# Altium schematic symbol library SWD.SchLib: 1 symbol
Pins are listed as number, name and electrical type; pins without a type are passive.

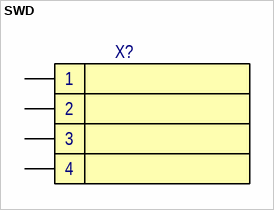
[diagram p0: symbol SWD]

## SWD
designator X?
ManufacturerPartNumber: ManufacturerPartNumber
pins: 1, 2, 3, 4
1 alternate drawing of the same symbol